# EAGLE library part ATMEGA328ZIP (library MTS-OTR_Custom)
Arduino outputs separated by type
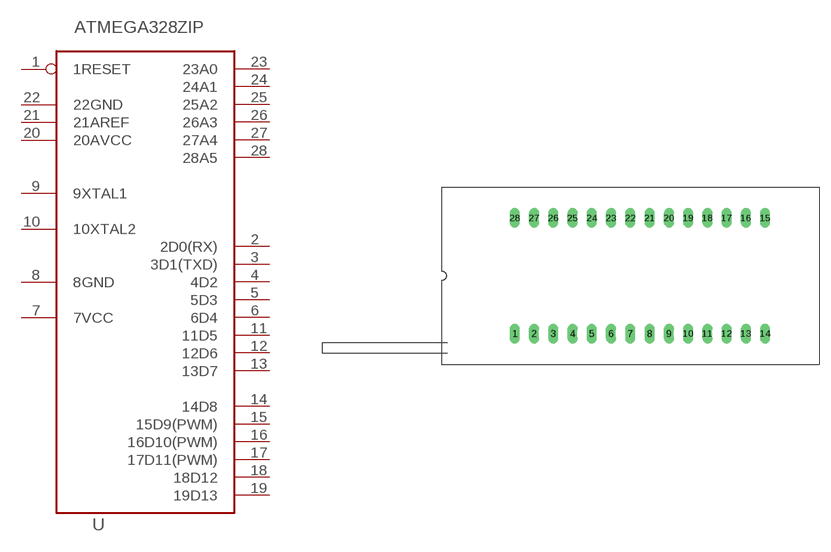
[diagram p8: symbol with the pads of ATMEGA328ZIP; footprint ATMEGA328ZIP]

Designator prefix -

## ATMEGA328ZIP  [ATMEGA328ZIP]
1  1RESET
2  2D0(RX)
3  3D1(TXD)
4  4D2
5  5D3
6  6D4
7  7VCC
8  8GND
9  9XTAL1
10  10XTAL2
11  11D5
12  12D6
13  13D7
14  14D8
15  15D9(PWM)
16  16D10(PWM)
17  17D11(PWM)
18  18D12
19  19D13
20  20AVCC
21  21AREF
22  22GND
23  23A0
24  24A1
25  25A2
26  26A3
27  27A4
28  28A5

## Footprint ATMEGA328ZIP (pad centres in mm)
drill 0.813 long: 1 -15.24,-7.62; 2 -12.7,-7.62; 3 -10.16,-7.62; 4 -7.62,-7.62; 5 -5.08,-7.62; 6 -2.54,-7.62; 7 0,-7.62; 8 2.54,-7.62; 9 5.08,-7.62; 10 7.62,-7.62; 11 10.16,-7.62; 12 12.7,-7.62; 13 15.24,-7.62; 14 17.78,-7.62; 15 17.78,7.62; 16 15.24,7.62; 17 12.7,7.62; 18 10.16,7.62; 19 7.62,7.62; 20 5.08,7.62; 21 2.54,7.62; 22 0,7.62; 23 -2.54,7.62; 24 -5.08,7.62; 25 -7.62,7.62; 26 -10.16,7.62; 27 -12.7,7.62; 28 -15.24,7.62